# Altium footprint library LCD.PcbLib: 1 footprints
Each footprint in its own frame and in the unit in brackets; x right, y up, seen from the top. Pads: shape width x height; smd on the part's side, far side on the other; paste and mask are expansions set on the pad; w line width, h text height; cw(c..) or ccw(c..) is an arc to the next point about the centre after c.
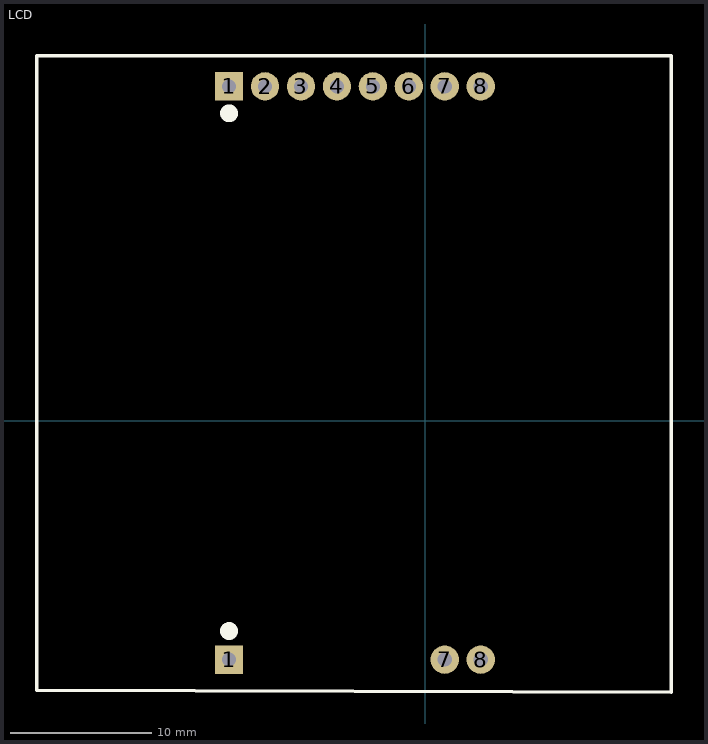
[diagram p0: the footprint, top view; thin cyan lines are the x and y axes]

## LCD [mm]
pads (12):
  rect 2x2 hole 1: 1(-13.843,-16.878) 1(-13.843,23.622)
  round 2 hole 1: 2(-11.303,23.622) 2(-11.303,23.622) 3(-8.763,23.622) 4(-6.223,23.622) 5(-3.683,23.622) 6(-1.143,23.622) 7(1.397,-16.878) 7(1.397,23.622) 8(3.937,-16.878) 8(3.937,23.622)
Top Overlay:
  circle w1: c-13.843,-14.859 r0.127
  circle w1: c-13.843,21.717 r0.127
  lines w0.254: -27.432,-19.05 -27.432,25.781 17.399,25.781 17.399,-19.177 -27.432,-19.05
3D body "LCD5110.STEP": height 8.36, standoff -4.77, extent -27.504,-19.109 17.496,25.891